# EAGLE library part EEPROM_I2C (library PP_DigitalIC)
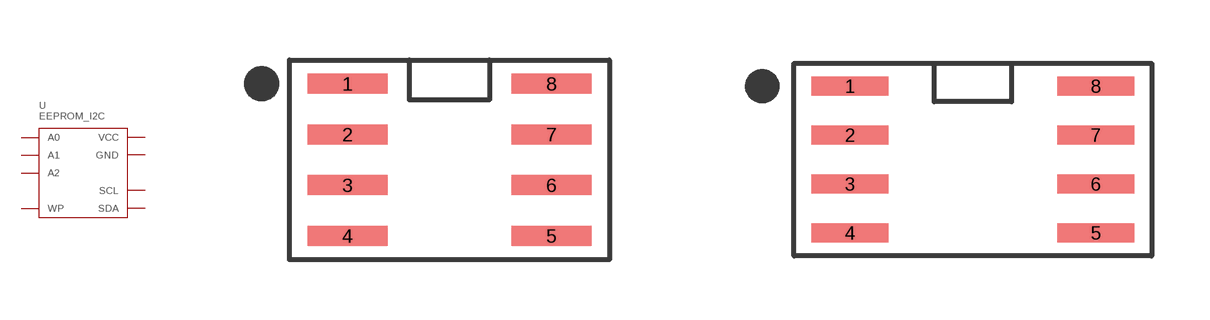
[diagram p5: symbol with the pads of SOIC-8; footprints SOIC-8, SOIC-8_W]

Designator prefix U

## EEPROM_I2CSOIC-8  [SOIC-8]
1  A0
2  A1
3  A2
4  GND
5  SDA
6  SCL
7  WP
8  VCC

## EEPROM_I2CSOIC-8_W  [SOIC-8_W]
Pads as for SOIC-8

## EEPROM_I2CDIP-8  [DIP-8]
Pads as for SOIC-8

## Footprint SOIC-8 (pad centres in mm)
smd 2 x 0.5: 1 -2.55,1.905; 2 -2.55,0.635; 3 -2.55,-0.635; 4 -2.55,-1.905; 5 2.55,-1.905; 6 2.55,-0.635; 7 2.55,0.635; 8 2.55,1.905

## Footprint SOIC-8_W (pad centres in mm)
smd 2 x 0.5: 1 -3.185,1.905; 2 -3.185,0.635; 3 -3.185,-0.635; 4 -3.185,-1.905; 5 3.185,-1.905; 6 3.185,-0.635; 7 3.185,0.635; 8 3.185,1.905

## Footprint DIP-8 (pad centres in mm)
drill 0.9 pad 1.727: 1 -3.81,3.81; 2 -3.81,1.27; 3 -3.81,-1.27; 4 -3.81,-3.81; 5 3.81,-3.81; 6 3.81,-1.27; 7 3.81,1.27; 8 3.81,3.81